# EAGLE library part LIGHTPIPE_4 (library LEDs)
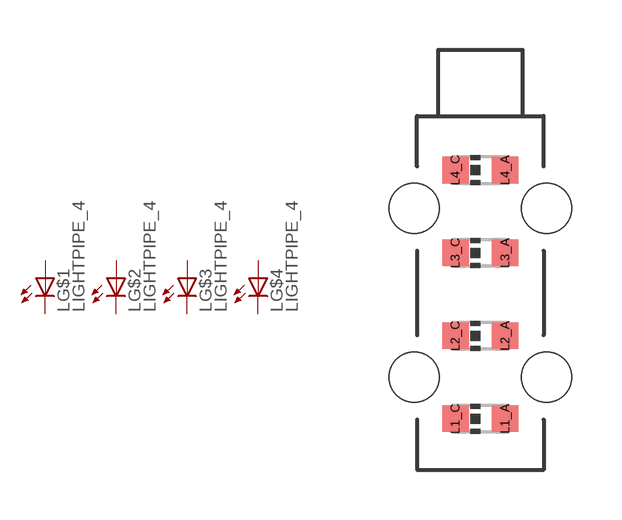
[diagram p3: symbol with the pads of LIGHTPIPE_4; footprint LIGHTPIPE_4]

Designator prefix L; gates G$1=LED G$2=LED G$3=LED G$4=LED

## LIGHTPIPE_4  [LIGHTPIPE_4]
L1_A  G$1:A  pas
L1_C  G$1:C  pas
L2_A  G$2:A  pas
L2_C  G$2:C  pas
L3_A  G$3:A  pas
L3_C  G$3:C  pas
L4_A  G$4:A  pas
L4_C  G$4:C  pas

## Footprint LIGHTPIPE_4 (pad centres in mm)
smd 0.8 x 0.8: L1_A 0.75,-3.788; L1_C -0.75,-3.788; L2_A 0.75,-1.292; L2_C -0.75,-1.292; L3_A 0.75,1.203; L3_C -0.75,1.203; L4_A 0.75,3.699; L4_C -0.75,3.699
hole 1.5 at -2,-2.54
hole 1.5 at -2,2.54
hole 1.5 at 2,2.54
hole 1.5 at 2,-2.54